# Altium footprint library PcbLib1.PcbLib: 31 footprints (part 2 of 2)
Each footprint in its own frame and in the unit in brackets; x right, y up, seen from the top. Pads: shape width x height; smd on the part's side, far side on the other; paste and mask are expansions set on the pad; w line width, h text height; cw(c..) or ccw(c..) is an arc to the next point about the centre after c.
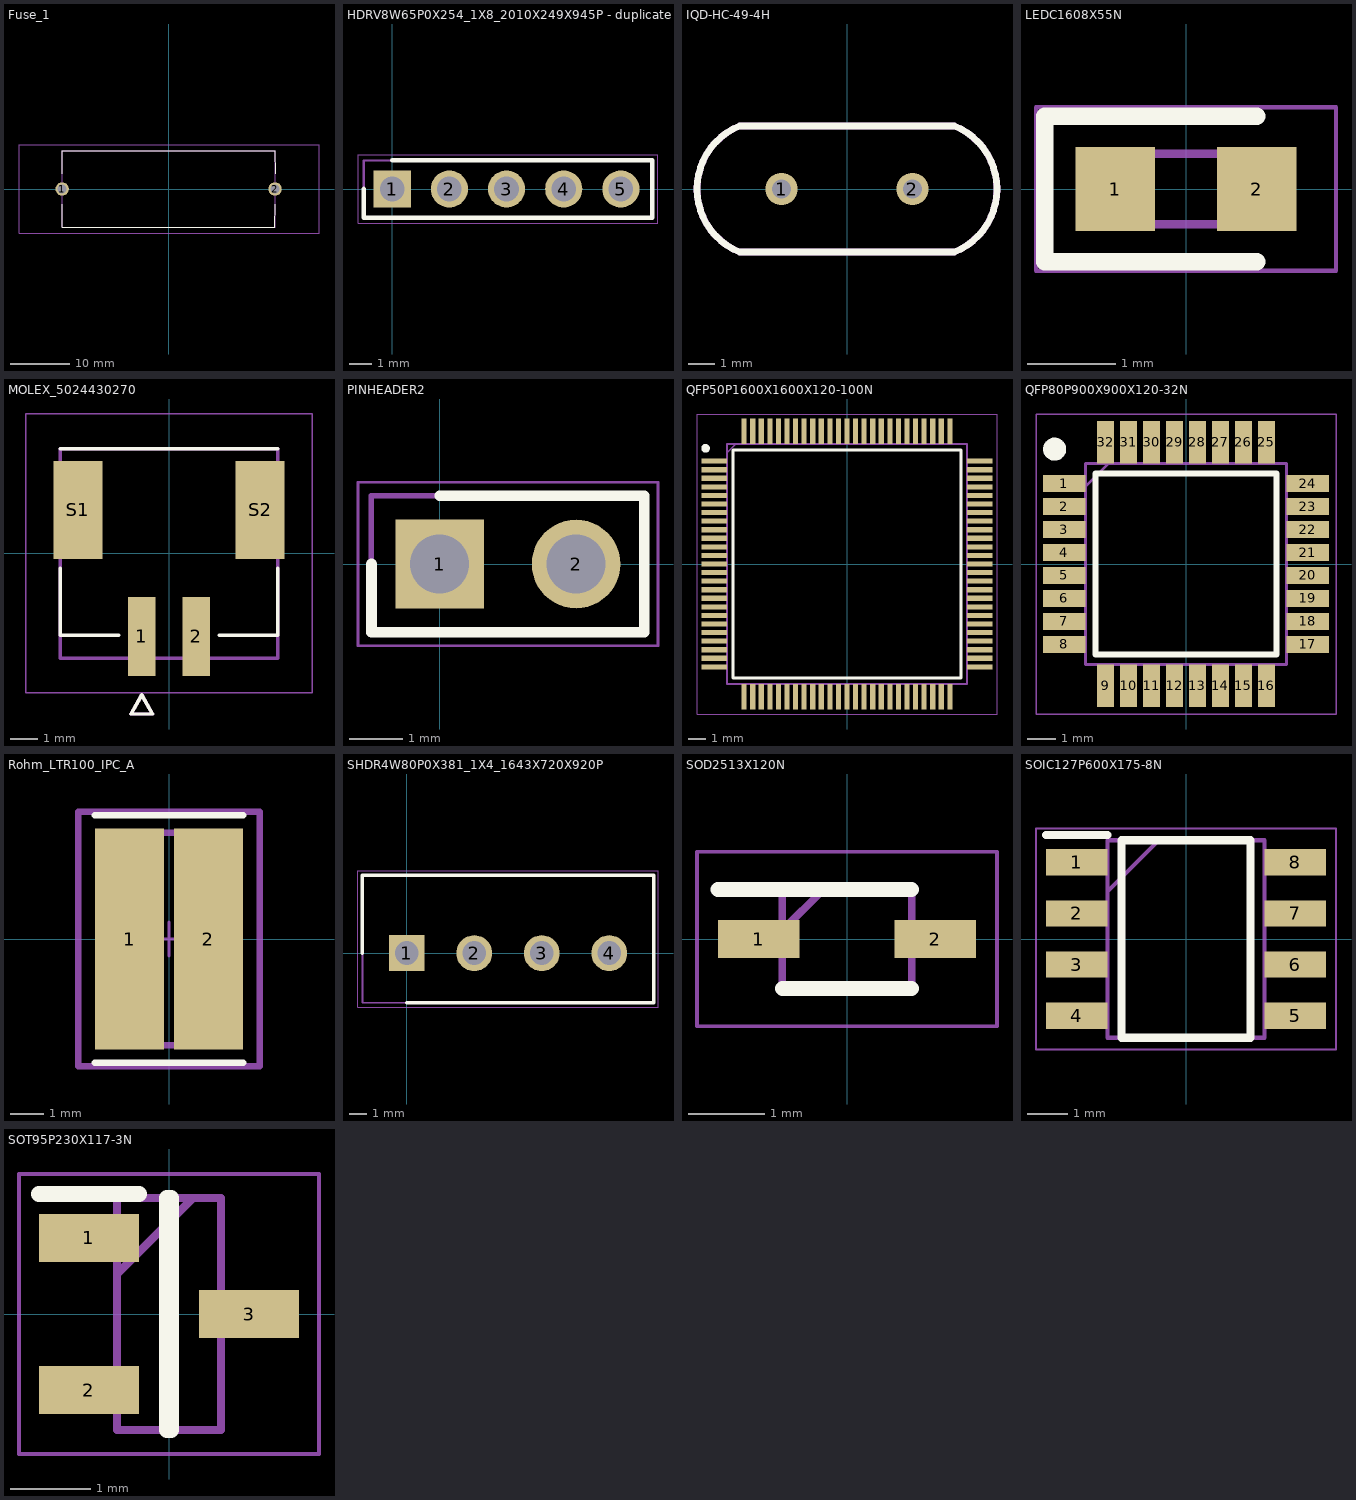
[diagram p1: the footprints below, top view; thin cyan lines are the x and y axes]

## Fuse_1 [mm]
pads (2):
  round 2.25 hole 1.5: 1(-17.8,0) 2(17.8,0)
Top Overlay:
  lines w0.1: -17.8,-2.54 -17.8,-6.4 17.78,-6.4 17.8,-2.54 ; -17.8,2.54 -17.78,6.4 17.78,6.4 17.8,2.54
Mechanical 13:
  lines w0.2: -17.8,-6.4 17.8,-6.4 17.8,6.4 -17.8,6.4 -17.8,-6.4
Mechanical 15:
  lines w0.1: -25.019,-7.4 -25.019,7.4 25.146,7.4 25.146,-7.4 -25.019,-7.4
3D body "03540001ZXGY.stp": height 13.65, standoff -1.84, extent -25.077,-9.45 25.699,7.454

## HDRV8W65P0X254_1X8_2010X249X945P - duplicate [mm]
pads (5):
  rect 1.65x1.65 hole 1.1: 1(0,0)
  round 1.65 hole 1.1: 2(2.54,0) 3(5.08,0) 4(7.62,0) 5(10.16,0)
Top Overlay:
  lines w0.2: -1.27,0 -1.27,-1.27 11.557,-1.27 11.557,1.27 0,1.27
Mechanical 13:
  lines w0.1: -1.27,-1.27 11.557,-1.27 11.557,1.27 -1.27,1.27 -1.27,-1.27
Mechanical 15:
  lines w0.05: -1.52,-1.52 11.811,-1.52 11.811,1.52 -1.52,1.52 -1.52,-1.52
3D body "Pin Header 1x5 TH Pitch 2.54mm.stp": height 9.5, standoff -3.2, extent -1.27,-1.27 11.43,1.27

## IQD-HC-49-4H [mm]
pads (2):
  round 1.2 hole 0.7: 1(-2.44,0) 2(2.44,0)
Top Overlay:
  lines w0.25: -4,-2.35 cw(c-3.055,0) -4,2.35 4,2.35 cw(c3.055,0) 4,-2.35 -4,-2.35
Mechanical 13:
  lines w0.25: -4,-2.35 4,-2.35 ; -4,2.35 4,2.35 ; -3.999,-2.35 cw(c-3.055,0) -3.999,2.35 ; 3.999,-2.35 ccw(c3.054,0) 3.999,2.35
3D body "LFXTAL003240.stp": height 5.24, standoff -11.56, extent -5.525,-2.35 5.525,2.35

## LEDC1608X55N [mm]
pads (2):
  rect 0.9x0.95 smd: 1(-0.8,0) 2(0.8,0)
Top Overlay:
  lines w0.2: 0.8,-0.825 -1.6,-0.825 -1.6,0.825 0.8,0.825
Mechanical 13:
  lines w0.1: -0.8,0.133 -0.533,0.4 ; -0.8,-0.4 -0.8,0.4 0.8,0.4 0.8,-0.4 -0.8,-0.4
Mechanical 15:
  lines w0.05: -1.7,-0.925 -1.7,0.925 1.7,0.925 1.7,-0.925 -1.7,-0.925

## MOLEX_5024430270 [mm]
height 7.5
pads (4):
  rect 1x2.9 smd mask+0.076: 1(-1,-3.05) 2(1,-3.05)
  rect 1.8x3.6 smd mask+0.076: S1(-3.35,1.6) S2(3.35,1.6)
Top Overlay:
  lines w0.127: -4,-0.55 -4,-3 -1.85,-3 ; -4,3.85 4,3.85 ; 1.85,-3 4,-3 4,-0.55 ; -1.4,-5.9 -0.6,-5.9 -1,-5.2 -1.4,-5.9
Mechanical 13:
  lines w0.127: -4,-3.85 4,-3.85 4,3.85 -4,3.85 -4,-3.85 ; -1.4,-5.9 -0.6,-5.9 -1,-5.2 -1.4,-5.9
Mechanical 15:
  lines w0.05: -5.27,-5.12 -5.27,5.12 5.27,5.12 5.27,-5.12 -5.27,-5.12
3D body "Conn_Molex_502443-0270_eec.STEP": height 7.7, standoff 0, extent -3.873,-4.021 4.127,3.68

## PCBComponent_1 [mm]

## PCBComponent_1 - duplicate [mm]

## PINHEADER2 [mm]
pads (2):
  rect 1.65x1.65 hole 1.1: 1(0,0)
  round 1.65 hole 1.1: 2(2.54,0)
Top Overlay:
  lines w0.2: -1.27,0 -1.27,-1.27 3.81,-1.27 3.81,1.27 0,1.27
Mechanical 13:
  lines w0.1: -1.27,-1.27 3.81,-1.27 3.81,1.27 -1.27,1.27 -1.27,-1.27
Mechanical 15:
  lines w0.05: -1.52,-1.52 4.064,-1.52 4.064,1.52 -1.52,1.52 -1.52,-1.52
3D body "Pin Header 1x2 TH Pitch 2.54mm.stp": height 9.5, standoff -3.2, extent -1.27,-1.27 3.81,1.27

## QFP50P1600X1600X120-100N [mm]
pads (100):
  rect 1.5x0.3 smd: 1(-7.75,6) 2(-7.75,5.5) 3(-7.75,5) 4(-7.75,4.5) 5(-7.75,4) 6(-7.75,3.5) 7(-7.75,3) 8(-7.75,2.5) 9(-7.75,2) 10(-7.75,1.5) 11(-7.75,1) 12(-7.75,0.5) 13(-7.75,0) 14(-7.75,-0.5) 15(-7.75,-1) 16(-7.75,-1.5) 17(-7.75,-2) 18(-7.75,-2.5) 19(-7.75,-3) 20(-7.75,-3.5) 21(-7.75,-4) 22(-7.75,-4.5) 23(-7.75,-5) 24(-7.75,-5.5) 25(-7.75,-6) 51(7.75,-6) 52(7.75,-5.5) 53(7.75,-5) 54(7.75,-4.5) 55(7.75,-4) 56(7.75,-3.5) 57(7.75,-3) 58(7.75,-2.5) 59(7.75,-2) 60(7.75,-1.5) 61(7.75,-1) 62(7.75,-0.5) 63(7.75,0) 64(7.75,0.5) 65(7.75,1) 66(7.75,1.5) 67(7.75,2) 68(7.75,2.5) 69(7.75,3) 70(7.75,3.5) 71(7.75,4) 72(7.75,4.5) 73(7.75,5) 74(7.75,5.5) 75(7.75,6)
  rect 0.3x1.5 smd: 26(-6,-7.75) 27(-5.5,-7.75) 28(-5,-7.75) 29(-4.5,-7.75) 30(-4,-7.75) 31(-3.5,-7.75) 32(-3,-7.75) 33(-2.5,-7.75) 34(-2,-7.75) 35(-1.5,-7.75) 36(-1,-7.75) 37(-0.5,-7.75) 38(0,-7.75) 39(0.5,-7.75) 40(1,-7.75) 41(1.5,-7.75) 42(2,-7.75) 43(2.5,-7.75) 44(3,-7.75) 45(3.5,-7.75) 46(4,-7.75) 47(4.5,-7.75) 48(5,-7.75) 49(5.5,-7.75) 50(6,-7.75) 76(6,7.75) 77(5.5,7.75) 78(5,7.75) 79(4.5,7.75) 80(4,7.75) 81(3.5,7.75) 82(3,7.75) 83(2.5,7.75) 84(2,7.75) 85(1.5,7.75) 86(1,7.75) 87(0.5,7.75) 88(0,7.75) 89(-0.5,7.75) 90(-1,7.75) 91(-1.5,7.75) 92(-2,7.75) 93(-2.5,7.75) 94(-3,7.75) 95(-3.5,7.75) 96(-4,7.75) 97(-4.5,7.75) 98(-5,7.75) 99(-5.5,7.75) 100(-6,7.75)
Top Overlay:
  circle w0.25: c-8.25,6.75 r0.125
  lines w0.2: -6.65,-6.65 6.65,-6.65 6.65,6.65 -6.65,6.65 -6.65,-6.65
Mechanical 13:
  lines w0.1: -7,6.5 -6.5,7 ; -7,-7 7,-7 7,7 -7,7 -7,-7
Mechanical 15:
  lines w0.05: -8.75,-8.75 8.75,-8.75 8.75,8.75 -8.75,8.75 -8.75,-8.75
3D body "ATMEGA2560-16AU.stp": height 1.2, standoff 0, extent -8,-8 8,8

## QFP80P900X900X120-32N [mm]
pads (32):
  rect 1.475x0.6 smd: 1(-4.238,2.8) 2(-4.238,2) 3(-4.238,1.2) 4(-4.238,0.4) 5(-4.238,-0.4) 6(-4.238,-1.2) 7(-4.238,-2) 8(-4.238,-2.8) 17(4.238,-2.8) 18(4.238,-2) 19(4.238,-1.2) 20(4.238,-0.4) 21(4.238,0.4) 22(4.238,1.2) 23(4.238,2) 24(4.238,2.8)
  rect 0.6x1.475 smd: 9(-2.8,-4.238) 10(-2,-4.238) 11(-1.2,-4.238) 12(-0.4,-4.238) 13(0.4,-4.238) 14(1.2,-4.238) 15(2,-4.238) 16(2.8,-4.238) 25(2.8,4.238) 26(2,4.238) 27(1.2,4.238) 28(0.4,4.238) 29(-0.4,4.238) 30(-1.2,4.238) 31(-2,4.238) 32(-2.8,4.238)
Top Overlay:
  circle w0.4: c-4.575,4 r0.2
  lines w0.2: -3.15,-3.15 3.15,-3.15 3.15,3.15 -3.15,3.15 -3.15,-3.15
Mechanical 13:
  lines w0.1: -3.5,2.7 -2.7,3.5 ; -3.5,-3.5 3.5,-3.5 3.5,3.5 -3.5,3.5 -3.5,-3.5
Mechanical 15:
  lines w0.05: -5.225,-5.225 5.225,-5.225 5.225,5.225 -5.225,5.225 -5.225,-5.225
3D body "ATMEGA328-AU.stp": height 1.2, standoff 0, extent -4.5,-4.5 4.5,4.5

## Rohm_LTR100_IPC_A [mm]
pads (2):
  rect 2.086x6.658 smd paste+0 mask+0: 1(-1.186,0) 2(1.186,0)
Top Overlay:
  lines w0.2: -2.229,-3.729 2.229,-3.729 ; -2.229,3.729 2.229,3.729
Mechanical 10:
  lines w0.2: -2.729,-3.829 2.729,-3.829 2.729,3.829 -2.729,3.829 -2.729,-3.829
  text ".Designator" at 0,0.188 h1
Mechanical 12:
  lines w0.2: -1.6,-3.2 1.6,-3.2 1.6,3.2 -1.6,3.2 -1.6,-3.2
Mechanical 15:
  lines w0.1: -0.5,0 0.5,0 ; 0,-0.5 0,0.5
  lines w0.2: -2.729,-3.829 2.729,-3.829 2.729,3.829 -2.729,3.829 -2.729,-3.829
3D body "Res_Rohm_LTR100JZPJ3R0_eec.STEP": height 0.25, standoff 0, extent -2.729,-3.829 2.729,3.829

## SHDR4W80P0X381_1X4_1643X720X920P [mm]
pads (4):
  rect 2.025x2.025 hole 1.35: 1(0,0)
  round 2.025 hole 1.35: 2(3.81,0) 3(7.62,0) 4(11.43,0)
Top Overlay:
  lines w0.2: -2.5,0 -2.5,4.4 13.93,4.4 13.93,-2.8 0,-2.8
Mechanical 13:
  lines w0.1: -2.5,-2.8 13.93,-2.8 13.93,4.4 -2.5,4.4 -2.5,-2.8
Mechanical 15:
  lines w0.05: -2.75,-3.05 14.18,-3.05 14.18,4.65 -2.75,4.65 -2.75,-3.05
3D body "691321300004.stp": height 9.2, standoff -3.5, extent -2.5,-3.6 13.93,3.6

## SOD2513X120N [mm]
pads (2):
  rect 1.075x0.5 smd: 1(-1.162,0) 2(1.162,0)
Top Overlay:
  lines w0.2: -1.7,0.65 0.85,0.65 ; -0.85,-0.65 0.85,-0.65
Mechanical 13:
  lines w0.1: -0.85,0.112 -0.312,0.65 ; -0.85,-0.65 -0.85,0.65 0.85,0.65 0.85,-0.65 -0.85,-0.65
Mechanical 15:
  lines w0.05: -1.975,-1.15 -1.975,1.15 1.975,1.15 1.975,-1.15 -1.975,-1.15
3D body "SD05-7.stp": height 1.2, standoff 0, extent -1.25,-0.65 1.25,0.65

## SOIC127P600X175-8N [mm]
pads (8):
  rect 1.528x0.65 smd: 1(-2.711,1.905) 2(-2.711,0.635) 3(-2.711,-0.635) 4(-2.711,-1.905) 5(2.711,-1.905) 6(2.711,-0.635) 7(2.711,0.635) 8(2.711,1.905)
Top Overlay:
  lines w0.2: -3.475,2.58 -1.948,2.58 ; -1.598,-2.452 -1.598,2.452 1.598,2.452 1.598,-2.452 -1.598,-2.452
Mechanical 13:
  lines w0.1: -1.948,1.182 -0.678,2.452 ; -1.948,-2.452 -1.948,2.452 1.948,2.452 1.948,-2.452 -1.948,-2.452
Mechanical 15:
  lines w0.05: -3.725,-2.75 -3.725,2.75 3.725,2.75 3.725,-2.75 -3.725,-2.75
3D body "THVD1520.stp": height 1.63, standoff 0, extent -3.011,-2.451 3.011,2.451

## SOT95P230X117-3N [mm]
pads (3):
  rect 1.25x0.6 smd: 1(-1,0.95) 2(-1,-0.95) 3(1,0)
Top Overlay:
  lines w0.2: -1.625,1.5 -0.375,1.5 ; -0.025,-1.45 0.025,-1.45 0.025,1.45 -0.025,1.45 -0.025,-1.45
Mechanical 13:
  lines w0.1: -0.65,0.5 0.3,1.45 ; -0.65,-1.45 0.65,-1.45 0.65,1.45 -0.65,1.45 -0.65,-1.45
Mechanical 15:
  lines w0.05: -1.875,-1.75 1.875,-1.75 1.875,1.75 -1.875,1.75 -1.875,-1.75
3D body "CDSOT23-SM712.stp": height 1.17, standoff 0, extent -1.148,-1.45 1.148,1.45